# Altium footprint library MIC4690YM.PcbLib: 3 footprints
Each footprint in its own frame and in the unit in brackets; x right, y up, seen from the top. Pads: shape width x height; smd on the part's side, far side on the other; paste and mask are expansions set on the pad; w line width, h text height; cw(c..) or ccw(c..) is an arc to the next point about the centre after c.
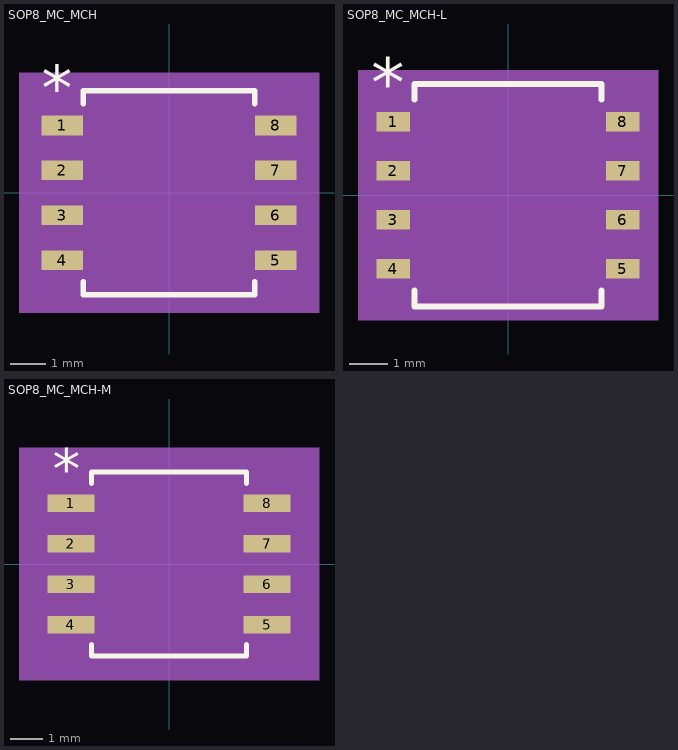
[diagram p0: the footprints below, top view; thin cyan lines are the x and y axes]

## SOP8_MC_MCH [mil]
pads (8):
  rect 46x22 smd paste+0 mask+0: 1(-119,75) 2(-119,25) 3(-119,-25) 4(-119,-75) 5(119,-75) 6(119,-25) 7(119,25) 8(119,75)
Top Overlay:
  lines w6: -95.5,-99.09 -95.5,-113.5 95.5,-113.5 95.5,-99.09 ; -95.5,99.09 -95.5,113.5 95.5,113.5 95.5,99.09
  text "*" at -141.5,92 h50
Mechanical 5:
  region: 167,-133.5 -167,-133.5 -167,133.5 167,133.5
Mechanical 13:
  lines w0: -12,108.5 ccw(c0,108.5) 12,108.5
  lines w1: -128,-85 -128,-65 -90.5,-65 -90.5,-85 -128,-85 ; -128,-35 -128,-15 -90.5,-15 -90.5,-35 -128,-35 ; -128,15 -128,35 -90.5,35 -90.5,15 -128,15 ; -128,65 -128,85 -90.5,85 -90.5,65 -128,65 ; -90.5,-108.5 90.5,-108.5 90.5,108.5 -90.5,108.5 -90.5,-108.5 ; 90.5,-85 90.5,-65 128,-65 128,-85 90.5,-85 ; 90.5,-35 90.5,-15 128,-15 128,-35 90.5,-35 ; 90.5,15 90.5,35 128,35 128,15 90.5,15 ; 90.5,65 90.5,85 128,85 128,65 90.5,65
  text "*" at -88,55.5 h50
Mechanical 15:
  region: -100.5,-96 -152,-96 -152,96 -100.5,96 -100.5,118.5 100.5,118.5 100.5,96 152,96 152,-96 100.5,-96 100.5,-118.5 -100.5,-118.5
  lines w6: -152,-96 -152,96 -100.5,96 -100.5,118.5 100.5,118.5 100.5,96 152,96 152,-96 100.5,-96 100.5,-118.5 -100.5,-118.5 -100.5,-96 -152,-96
3D body "SOP8_MC_MCH.step": height 69.09, standoff 0, extent -127.99,-108.5 127.99,108.5

## SOP8_MC_MCH-L [mil]
pads (8):
  rect 34x20 smd paste+0 mask+0: 1(-117,75) 2(-117,25) 3(-117,-25) 4(-117,-75) 5(117,-75) 6(117,-25) 7(117,25) 8(117,75)
Top Overlay:
  lines w6: -95.5,-97.3 -95.5,-113.5 95.5,-113.5 95.5,-97.3 ; -95.5,97.3 -95.5,113.5 95.5,113.5 95.5,97.3
  text "*" at -139.5,90 h50
Mechanical 5:
  region: 153,-127.5 -153,-127.5 -153,127.5 153,127.5
Mechanical 13:
  lines w0: -12,108.5 ccw(c0,108.5) 12,108.5
  lines w1: -128,-85 -128,-65 -90.5,-65 -90.5,-85 -128,-85 ; -128,-35 -128,-15 -90.5,-15 -90.5,-35 -128,-35 ; -128,15 -128,35 -90.5,35 -90.5,15 -128,15 ; -128,65 -128,85 -90.5,85 -90.5,65 -128,65 ; -90.5,-108.5 90.5,-108.5 90.5,108.5 -90.5,108.5 -90.5,-108.5 ; 90.5,-85 90.5,-65 128,-65 128,-85 90.5,-85 ; 90.5,-35 90.5,-15 128,-15 128,-35 90.5,-35 ; 90.5,15 90.5,35 128,35 128,15 90.5,15 ; 90.5,65 90.5,85 128,85 128,65 90.5,65
  text "*" at -88,55.5 h50
Mechanical 15:
  region: -94.5,-89 -138,-89 -138,89 -94.5,89 -94.5,112.5 94.5,112.5 94.5,89 138,89 138,-89 94.5,-89 94.5,-112.5 -94.5,-112.5
  lines w6: -138,-89 -138,89 -94.5,89 -94.5,112.5 94.5,112.5 94.5,89 138,89 138,-89 94.5,-89 94.5,-112.5 -94.5,-112.5 -94.5,-89 -138,-89
3D body "SOP8_MC_MCH.step": height 69.09, standoff 0, extent -127.99,-108.5 127.99,108.5

## SOP8_MC_MCH-M [mil]
pads (8):
  rect 58x22 smd paste+0 mask+0: 1(-121,75) 2(-121,25) 3(-121,-25) 4(-121,-75) 5(121,-75) 6(121,-25) 7(121,25) 8(121,75)
Top Overlay:
  lines w6: -95.5,-99.1 -95.5,-113.5 95.5,-113.5 95.5,-99.1 ; -95.5,99.1 -95.5,113.5 95.5,113.5 95.5,99.1
  text "*" at -143.5,92 h50
Mechanical 5:
  region: 185,-143.5 -185,-143.5 -185,143.5 185,143.5
Mechanical 13:
  lines w0: -12,108.5 ccw(c0,108.5) 12,108.5
  lines w1: -128,-85 -128,-65 -90.5,-65 -90.5,-85 -128,-85 ; -128,-35 -128,-15 -90.5,-15 -90.5,-35 -128,-35 ; -128,15 -128,35 -90.5,35 -90.5,15 -128,15 ; -128,65 -128,85 -90.5,85 -90.5,65 -128,65 ; -90.5,-108.5 90.5,-108.5 90.5,108.5 -90.5,108.5 -90.5,-108.5 ; 90.5,-85 90.5,-65 128,-65 128,-85 90.5,-85 ; 90.5,-35 90.5,-15 128,-15 128,-35 90.5,-35 ; 90.5,15 90.5,35 128,35 128,15 90.5,15 ; 90.5,65 90.5,85 128,85 128,65 90.5,65
  text "*" at -88,55.5 h50
Mechanical 15:
  region: -110.5,-106 -170,-106 -170,106 -110.5,106 -110.5,128.5 110.5,128.5 110.5,106 170,106 170,-106 110.5,-106 110.5,-128.5 -110.5,-128.5
  lines w6: -170,-106 -170,106 -110.5,106 -110.5,128.5 110.5,128.5 110.5,106 170,106 170,-106 110.5,-106 110.5,-128.5 -110.5,-128.5 -110.5,-106 -170,-106
3D body "SOP8_MC_MCH.step": height 69.09, standoff 0, extent -127.99,-108.5 127.99,108.5